# EAGLE library part LM2596 (library TABOR K1)
DC/DC pulzny regulator STEP-DOWN / 3A upraveny podla katalogu
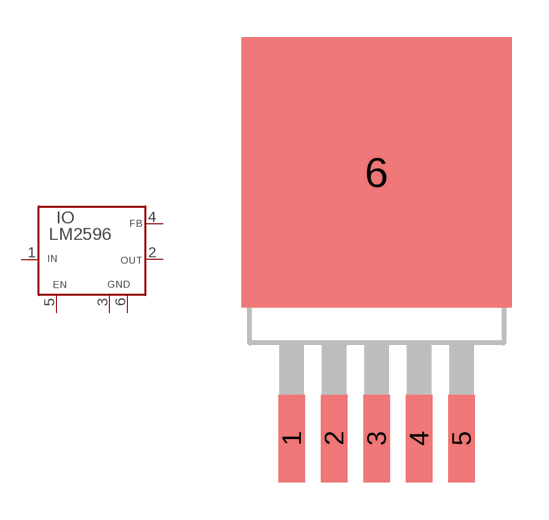
[diagram p18: symbol with the pads of TO263-5; footprint TO263-5]

Designator prefix IO

## LM2596S  [TO263-5]
1  IN  in
2  OUT  out
3  GND  pwr
4  FB  in
5  EN  in
6  GND  pwr

## Footprint TO263-5 (pad centres in mm)
SMD puzdro TO263-5 : cinova ploska PIN= 1,0 mm cinova ploska chladic= 2,0 mm
smd 1.067 x 3.505: 1 -3.404,0.762; 2 -1.702,0.762; 3 0,0.762; 4 1.702,0.762; 5 3.404,0.762
smd 10.82 x 10.82: 6 0,11.43